# Altium footprint library STMduino.PcbLib: 3 footprints
Each footprint in its own frame and in the unit in brackets; x right, y up, seen from the top. Pads: shape width x height; smd on the part's side, far side on the other; paste and mask are expansions set on the pad; w line width, h text height; cw(c..) or ccw(c..) is an arc to the next point about the centre after c.
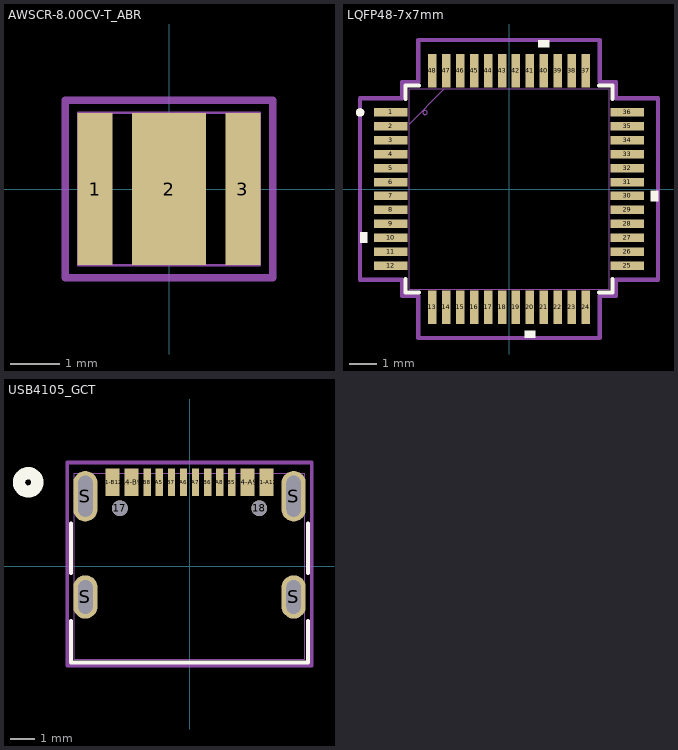
[diagram p0: the footprints below, top view; thin cyan lines are the x and y axes]

## AWSCR-8.00CV-T_ABR [mil]
pads (3):
  rect 28x122 smd paste+0 mask+0: 1(-59.06,0) 3(59.06,0)
  rect 59x122 smd paste+0 mask+0: 2(0,0)
Mechanical 1:
  lines w1.97: -72.83,-61.02 72.83,-61.02 72.83,61.02 -72.83,61.02 -72.83,-61.02
Mechanical 15:
  lines w6: -83.06,-71 -83.06,71 -35.06,71 -39.5,71 39.5,71 35.06,71 83.06,71 83.06,-71 35.06,-71 39.5,-71 -39.5,-71 -35.06,-71 -83.06,-71
3D body: height 39.37, standoff 0, extent -72.83,-61.02 72.83,61.02
3D body: height 10, standoff 0, extent 0,0 10,10

## LQFP48-7x7mm [mil]
pads (48):
  rect 47x12 smd paste+0 mask+0: 1(-167.32,108.27) 2(-167.32,88.58) 3(-167.32,68.9) 4(-167.32,49.21) 5(-167.32,29.53) 6(-167.32,9.84) 7(-167.32,-9.84) 8(-167.32,-29.53) 9(-167.32,-49.21) 10(-167.32,-68.9) 11(-167.32,-88.58) 12(-167.32,-108.27) 25(167.32,-108.27) 26(167.32,-88.58) 27(167.32,-68.9) 28(167.32,-49.21) 29(167.32,-29.53) 30(167.32,-9.84) 31(167.32,9.84) 32(167.32,29.53) 33(167.32,49.21) 34(167.32,68.9) 35(167.32,88.58) 36(167.32,108.27)
  rect 12x47 smd paste+0 mask+0: 13(-108.27,-167.32) 14(-88.58,-167.32) 15(-68.9,-167.32) 16(-49.21,-167.32) 17(-29.53,-167.32) 18(-9.84,-167.32) 19(9.84,-167.32) 20(29.53,-167.32) 21(49.21,-167.32) 22(68.9,-167.32) 23(88.58,-167.32) 24(108.27,-167.32) 37(108.27,167.32) 38(88.58,167.32) 39(68.9,167.32) 40(49.21,167.32) 41(29.53,167.32) 42(9.84,167.32) 43(-9.84,167.32) 44(-29.53,167.32) 45(-49.21,167.32) 46(-68.9,167.32) 47(-88.58,167.32) 48(-108.27,167.32)
Top Overlay:
  circle w6: c-210.67,108.27 r3
  region: -200.82,-61.4 -210.82,-61.4 -210.82,-76.4 -200.82,-76.4
  region: 37.03,-200.82 22.03,-200.82 22.03,-210.82 37.03,-210.82
  region: 200.82,-2.34 210.82,-2.34 210.82,-17.34 200.82,-17.34
  region: 56.71,200.82 41.71,200.82 41.71,210.82 56.71,210.82
  lines w6: -146.5,-127.37 -146.5,-146.5 -127.37,-146.5 ; -146.5,127.37 -146.5,146.5 -127.37,146.5 ; 127.37,-146.5 146.5,-146.5 146.5,-127.37 ; 127.37,146.5 146.5,146.5 146.5,127.37
Mechanical 13:
  circle w0: c-118.82,108.27 r3
  lines w1: -141.5,91.5 -91.5,141.5 ; -141.5,-141.5 141.5,-141.5 141.5,141.5 -141.5,141.5 -141.5,-141.5
Mechanical 15:
  lines w6: -210.82,-128.27 -151.5,-128.27 -151.5,-151.5 -128.27,-151.5 -128.27,-210.82 128.27,-210.82 128.27,-151.5 151.5,-151.5 151.5,-128.27 210.82,-128.27 210.82,128.27 151.5,128.27 151.5,151.5 128.27,151.5 128.27,210.82 -128.27,210.82 -128.27,151.5 -151.5,151.5 -151.5,128.27 -210.82,128.27 -210.82,-128.27
3D body "LQFP48-7x7mm.step": height 63.11, standoff 0, extent -177.05,-177.05 177.05,177.05

## USB4105_GCT [mil]
pads (18):
  round 26 hole 26 unplated: 17(-113.78,94.91) 18(113.78,94.91)
  rect 23x45 smd: A1-B12(-125.98,137.24) A4-B9(-94.49,137.24) B1-A12(125.98,137.24) B4-A9(94.49,137.24)
  rect 12x45 smd paste+0 mask+0: A5(-49.21,137.24) A6(-9.84,137.24) A7(9.84,137.24) A8(49.21,137.24) B5(68.9,137.24) B6(29.53,137.24) B7(-29.53,137.24) B8(-68.9,137.24)
  oval 39.37x70.87 hole 23.62 slot 55.12 at 90 deg: S(-170.08,-49.97) S(170.08,-49.97)
  oval 39.37x82.68 hole 23.62 slot 66.93 at 90 deg: S(-170.08,114.6) S(170.08,114.6)
Top Overlay:
  circle w20: c-263.5,137.24 r15
  lines w6: -193.5,-88.64 -193.5,-157 193.5,-157 193.5,-88.64 ; -193.5,-11.29 -193.5,69.92 ; 193.5,-11.29 193.5,69.92
Bottom Overlay:
  circle w20: c-263.5,137.24 r15
Mechanical 13:
  lines w1: -188.5,-152 -188.5,152 188.5,152 188.5,-152 -188.5,-152
Mechanical 15:
  lines w6: -199.58,-162 199.58,-162 199.58,169.74 -199.58,169.74 -199.58,-162
3D body "USB4105--3DModel-STEP-56544.STEP": height 130.31, standoff -33.46, extent -188.58,-152.36 188.58,151.18